# Altium schematic symbol library 320Parts.SchLib: 16 symbols
Pins are listed as number, name and electrical type; pins without a type are passive.

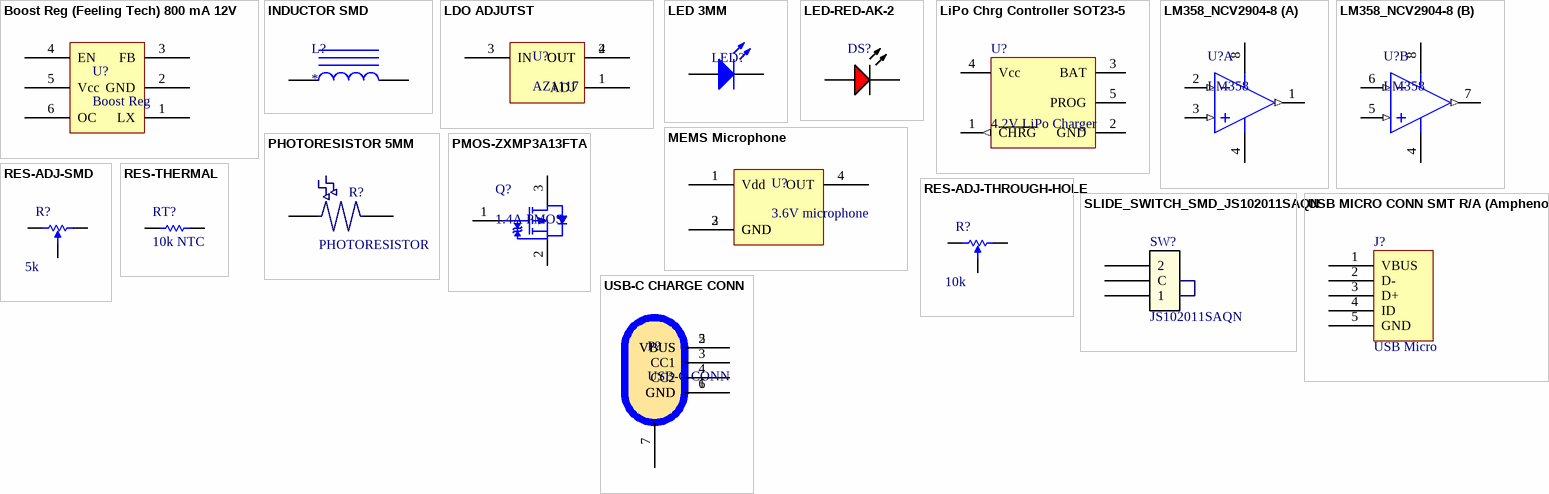
[diagram p0: symbols Boost Reg (Feeling Tech) 800 mA 12V to USB-C CHARGE CONN]

## Boost Reg (Feeling Tech) 800 mA 12V
designator U?, comment Boost Reg
Feeling Tech 800mA boost regulator 12V output max 1MHz
footprint FAIR-SOT23-6_V (SOT23, 6-Leads, Body 2.9x1.6mm, Pitch 0.95mm)
pins: 1 LX, 2 GND, 3 FB, 4 EN, 5 Vcc, 6 OC

## INDUCTOR SMD
designator L?
footprint MURA-LQH55DN100M03_V (SMD, 2-Leads, Body 5.7x5mm)
pins: 1, 2

## LDO ADJUTST
designator U?, comment AZ1117
Diodes Inc. AZ1117 Adjustable Regulator
footprint TI-DCY4_M (SOT223, 4-Leads, Body 6.5x3.5mm, Pitch 2.3mm, IPC Low Density)
pins: 1 ADJ, 2 OUT, 3 IN, 4 OUT

## LED 3MM
designator LED?
footprint Type 3mm (THT, LED-3mm, 2pin- Body 4.15mm(max))
pins: 1 K, 2 A

## LED-RED-AK-2
designator DS?
footprint LTST-C193KRKT-5A_V (SMD, 2-Leads, Body 1.6x0.8mm)
pins: 1 A, 2 K

## LiPo Chrg Controller SOT23-5
designator U?, comment 4.2V LiPo Charger
TOP POWER ASIC
footprint SOT-23-OT5_M (SOT23, 5-Leads, Body 2.9x1.7mm, Pitch 0.95mm, Lead Span 2.8mm, IPC Low Density)
pins: 1 ~{CHRG} (out), 2 GND (power), 3 BAT (power), 4 Vcc (power), 5 PROG

## LM358_NCV2904-8
designator U?, comment LM358
footprint ONSC-MICRO-8-846A-02_H_V (SOIC, 8-Leads, Body 3.1x3.1mm, Pitch 0.65mm)
pins on every part: 4 VEE/GND (power), 8 VCC (power)
part A pins: 1 OUTA (out), 2 INA- (in), 3 INA+ (in)
part B pins: 5 INB+ (in), 6 INB- (in), 7 OUTB (out)

## MEMS Microphone
designator U?, comment 3.6V microphone
Parton AM4311T42A0
footprint MEMS Microphone SMD 3.76x2.95 mm (MEMS microphone)
pins: 1 Vdd, 2 GND, 3 GND, 4 OUT

## PHOTORESISTOR 5MM
designator R?, comment PHOTORESISTOR
5mm CdS(e) photoresistor; Supplier 1: Digi-Key; Supplier Part Number 1: PDV-P8103-ND
footprint Photocell
pins: 1, 2

## PMOS-ZXMP3A13FTA
designator Q?, comment 1.4A PMOS
footprint ONSC-CP-3-318AN_A_V (SOT23, 3-Leads, Body 2.9x1.5mm, Pitch 0.95mm)
pins: 1 G, 2 S, 3 D

## RES-ADJ-SMD
designator R?  Resistance: 5k
footprint BOUR-TC33X-2_V (SMD, 3-Leads, Body 3.8x3.6mm)
pins: 1, 2, 3

## RES-ADJ-THROUGH-HOLE
designator R?  Resistance: 10k
footprint BOUR-3296W-1-3 (THD, 3-Leads, Body 9.53x4.83mm, Pitch 2.54mm)
pins: 1, 2, 3

## RES-THERMAL
designator RT?, comment 10k NTC
footprint RESC2013X100X45ML20T25 (Chip Resistor, 2-Leads, Body 2.2x1.45mm, IPC Low Density)
pins: 1, 2

## SLIDE_SWITCH_SMD_JS102011SAQN
designator SW?, comment Manufacturer Part Number: JS102011SAQN  (hidden comment: Slide Switch)
Horizontal SMT Slide Switch JS102011SAQN; Manufacturer: C&K Components; Circuit: SPDT; Contact Timing: Not Specified; Switch Function: On-On; Current Rating: 300mA (DC); Voltage Rating - DC: 6V; Actuator Type: Standard; Actuator Length: 2.00mm; Actuator Material: Polyamide (PA46), Nylon 4/6; Electrical Life: 5,000 Cycles; Supplier 1: Digi-Key; RoHS: RoHS Compliant; Category: Switches; Stock 1: 12968; Pricing 1: 1=0.53, 10=0.512, 25=0.5016, 50=0.4482, 100=0.4268, 250=0.41612, 500=0.35212 (USD); Packaging: Cut Tape (CT); Voltage Rating - AC: -; Contact Material: Copper Alloy; Contact Finish: Silver; Mounting Type: Surface Mount, Right Angle; Termination Style: Gull Wing; Features: -; Switch Travel: 2.00mm; Operating Temperature: -40°C ~ 85°C; Mechanical Life: -; Operating Force: -; ComponentLink1URL: http://www.ck-components.com/index.php?module=media&action=Display&cmpref=14398&lang=en&width=&height=&format=&alt=; ComponentLink1Description: http://www.ck-components.com/index.php?module=media&action=Display&cmpref=14398&lang=en&width=&height=&format=&alt=; Supplier Part Number 1: 401-1999-1-ND
footprint JS102011SAQN (SMT slide switch)
pins: 1, 2 C, 3 2

## USB MICRO CONN SMT R/A (Amphenol)
designator J?, comment USB Micro
Micro USB R/A SMT CONNECTOR; Supplier 1: Digi-Key; Supplier Part Number 1: 609-4618-1-ND
footprint USB_CONN (MicroUSB SMT R/A)
pins: 1 VBUS, 2 D-, 3 D+, 4 ID, 5 GND

## USB-C CHARGE CONN
designator P?, comment USB-C CONN
Power only USB-C Connector
footprint USB CONN TYPE-C CHARGE (Charge only (no data) USB Type C connector HRO)
pins: 1 GND, 2 VBUS, 3 CC1, 4 CC2, 5 VBUS, 6 GND, 7